# Altium footprint library PEC11R.PcbLib: 1 footprints
Each footprint in its own frame and in the unit in brackets; x right, y up, seen from the top. Pads: shape width x height; smd on the part's side, far side on the other; paste and mask are expansions set on the pad; w line width, h text height; cw(c..) or ccw(c..) is an arc to the next point about the centre after c.
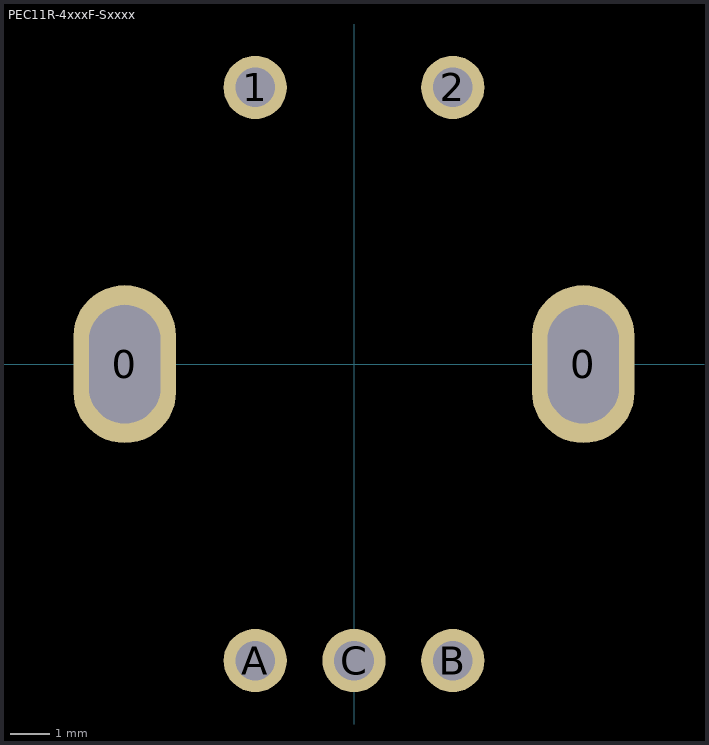
[diagram p0: the footprint, top view; thin cyan lines are the x and y axes]

## PEC11R-4xxxF-Sxxxx [mm]
height 15
pads (7):
  rrect100% 2.6x4 hole 1.8 slot 3 at 90 deg: 0(-5.8,0) 0(5.8,0)
  round 1.6 hole 1: 1(-2.5,7) 2(2.5,7) A(-2.5,-7.5) B(2.5,-7.5) C(0,-7.5)
3D body "pec11r-4x15k-sxxxx.stp": height 21.6, standoff -3.6, extent -7,-7.7 7,7.2